# Altium schematic symbol library LM2596SX-ADJ_NOPB.Schlib: 1 symbol
Pins are listed as number, name and electrical type; pins without a type are passive.

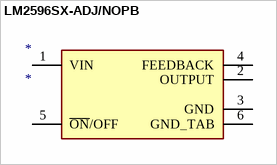
[diagram p0: symbol LM2596SX-ADJ/NOPB]

## LM2596SX-ADJ/NOPB
designator *
DC-DC CONVERTERS STEP-DOWN ADJUSTABLE 1 4.5V 40V 1.2V 37V 3A TO-263-5 ROHS; ComponentLink1Description: LCSC - Texas Instruments LM2596SX-ADJ/NOPB; ComponentLink1URL: https://lcsc.com/product-detail/DC-DC-Converters_TI_LM2596SX-ADJ-NOPB_LM2596SX-ADJ-NOPB_C29781.html/?href=jlc-SMT; LCSC Part #: C29781; JLCPCB Part Type: Extended
footprint TO-263-5
pins: 1 VIN, 2 OUTPUT, 3 GND, 4 FEEDBACK, 5 ~{ON}/OFF, 6 GND_TAB